# Altium schematic symbol library TMP302.SchLib: 1 symbol
Pins are listed as number, name and electrical type; pins without a type are passive.

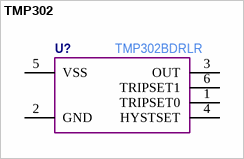
[diagram p0: symbol TMP302]

## TMP302
designator U?  Manufacturer Part Number: TMP302BDRLR  (hidden comment: *)
pins: 1 TRIPSET0, 2 GND, 3 OUT, 4 HYSTSET, 5 VSS, 6 TRIPSET1